# Altium schematic symbol library Sensor.SchLib: 6 symbols
Pins are listed as number, name and electrical type; pins without a type are passive.

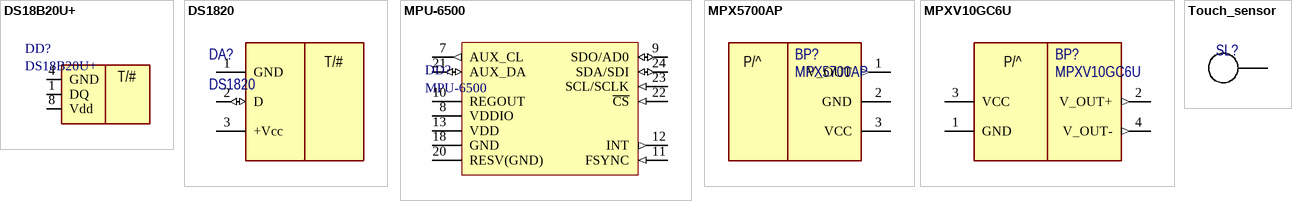
[diagram p0: symbols DS18B20U+ to Touch_sensor]

## DS18B20U+
designator DD?
MAXIM INTEGRATED PRODUCTS   DS18B20U+   THERMOMETER, DIG, PROG, SMD, 18B20; Interface: Serial; Output Type: Digital; Min Supply Voltage: 3V; Max Supply Voltage: 5.5V; Output Current: 4mA; Operating Supply Current: 1.5mA; Number of Bits: 12; Nominal Supply Current: 1mA; Resolution: 12b; Supplier 1: Mouser; Manufacturer: Maxim; Manufacturer Part Number: DS18B20U+; Stock 1: 10988; Pricing 1: 1=2.71, 10=2.66, 50=2.62, 100=2.61, 1000=2.47, 10000=2.47 (USD); Case/Package: MSOP; Number of Pins: 8; Min Operating Temperature: -55°C; Max Operating Temperature: 125°C; Packaging: Rail/Tube; Package Quantity: 50; Max Supply Voltage (DC): 5.5V; Min Supply Voltage (DC): 3V; Termination: SMD/SMT; Length: 3.1mm; Height: 0.95mm; Width: 3.1mm; Radiation Hardening: No; REACH SVHC: Unknown; Lead Free: Lead Free; ComponentLink1URL: https://datasheet.ciiva.com/1165/74395-1165937.pdf; ComponentLink1Description: https://datasheet.ciiva.com/1165/74395-1165937.pdf; ComponentLink2URL: https://datasheet.ciiva.com/26887/ds18b20u-26887134.pdf; ComponentLink2Description: https://datasheet.ciiva.com/26887/ds18b20u-26887134.pdf; ComponentLink3URL: https://datasheet.ciiva.com/2003/ds18b20-2003438.pdf; ComponentLink3Description: https://datasheet.ciiva.com/2003/ds18b20-2003438.pdf; ComponentLink4URL: https://datasheet.ciiva.com/3277/ds18b20-3277871.pdf; ComponentLink4Description: https://datasheet.ciiva.com/3277/ds18b20-3277871.pdf; Supplier Part Number 1: 700-DS18B20U
footprint uSOP-8 (uSOP, 8-Leads, Body 3,00x3,00mm, Pitch 0,65mm, IPC Medium Density)
pins: 1 DQ (io), 4 GND (power), 8 Vdd (power)
text: T/#

## DS1820
designator DA?
Термодатчик 1-wire; Manufacturer: Dallas Semiconductor; Package: TO-92; ComponentLink1URL: http://datasheets.maximintegrated.com/en/ds/DS18B20-PAR.pdf; ComponentLink1Description: Datasheet; Supplier: Промэлектроника; ManufacturerPartNumber: DS1820
footprint L78L09 (TO-92)
pins: 1 GND (power), 2 D (io) "DQ", 3 +Vcc (power) "Vdd"
text: T/#

## MPU-6500
designator DD?
GYRO/ACCELEROMETER 6AXIS 24QFN; Manufacturer: TDK InvenSense; Output Type: Digital; Sensor Type: Accelerometer,Gyroscope; Operating Supply Voltage: 3.45V; Supplier 1: Digi-Key; Manufacturer Part Number: MPU-6500; Stock 1: 22973; Pricing 1: 1=8.29, 5=7.274, 10=6.546, 25=5.8192, 50=5.3826, 100=4.6552, 500=4.3643, 1000=4.0733 (USD); Mount: Surface Mount; Case/Package: QFN; Number of Pins: 24; Min Operating Temperature: -40°C; Max Operating Temperature: 85°C; Package Quantity: 5000; ComponentLink1URL: https://datasheet.ciiva.com/29175/mpu-6500-spec-29175093.pdf; ComponentLink1Description: https://datasheet.ciiva.com/29175/mpu-6500-spec-29175093.pdf; Supplier Part Number 1: 1428-1011-1-ND
footprint PQFN24 (PQFN, 24-Leads, Body 3,00x3,00mm, Pitch 0,40mm, Thermal Pad 1,70x1,54mm, IPC Medium Density)
pins: 7 AUX_CL (out), 8 VDDIO (power), 9 SDO/AD0 (io), 10 REGOUT, 11 FSYNC (in), 12 INT (out), 13 VDD (power), 18 GND (power), 20 RESV(GND) (power), 21 AUX_DA (io), 22 ~{CS} (in), 23 SCL/SCLK (in), 24 SDA/SDI (io)

## MPX5700AP
designator BP?
Pressure sensor, 700kPa; Manufacturer: Freescale Semiconductor; ComponentLink1URL: http://cache.freescale.com/files/sensors/doc/data_sheet/MPX5700.pdf; ComponentLink1Description: Datasheet; Price: 807; ManufacturerPartNumber: MPX5700AP; Package: 867B-04; ComponentLink2URL: http://www.promelec.ru/pdf/mpx5700.pdf; ComponentLink2Description: Datasheet-promelec; Supplier: Промэлектроника
footprint MPX5700AP
footprint MPX5700AP_lying
pins: 1 V_OUT (out), 2 GND (power), 3 VCC (power)
text: P/^

## MPXV10GC6U
designator BP?
Pressure sensor, 10kPa; Manufacturer: Freescale Semiconductor; ComponentLink1URL: http://cache.freescale.com/files/sensors/doc/data_sheet/MPX10.pdf?pspll=1; ComponentLink1Description: Datasheet; Price: 807; ManufacturerPartNumber: MPXV10GC6U; Package: 482A-01; Supplier: Промэлектроника
footprint MPX482A-01 (SOP, 8-Leads, Body 10,66x10,66mm, Pitch 2,54mm, IPC Low Density)
pins: 1 GND (power), 2 V_OUT+ (out), 3 VCC (power), 4 V_OUT- (out)
text: P/^

## Touch_sensor
designator SL?  (value not drawn)
Bolt touch sensor; Manufacturer: LTF; ManufacturerPartNumber: ScrewTouch101; Price: 10; Note: *; Supplier: LTF
footprint Bolt 6mm
pins: 1